# EAGLE library part STAMP_PWR485 (library lbr_rin9147)
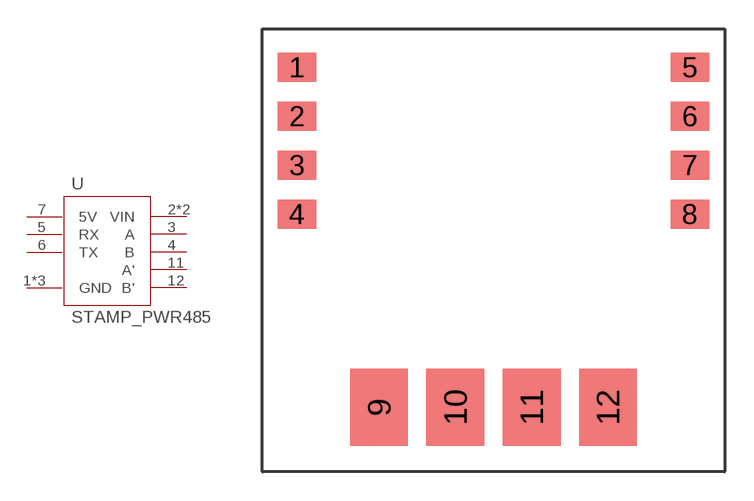
[diagram p11: symbol with the pads of STAMP_PWR485; footprint STAMP_PWR485]

Designator prefix -

## STAMP_PWR485  [STAMP_PWR485]
1  GND
2  VIN  pas
3  A
4  B
5  RX
6  TX
7  5V  pas
8  GND
9  GND
10  VIN  pas
11  A'
12  B'

## Footprint STAMP_PWR485 (pad centres in mm)
smd 2 x 1.5: 1 -0.2,0; 2 -0.2,-2.54; 3 -0.2,-5.08; 4 -0.2,-7.62; 5 20.2,0; 6 20.2,-2.54; 7 20.2,-5.08; 8 20.2,-7.62
smd 3 x 4: 9 4.06,-17.65; 10 8.02,-17.65; 11 11.98,-17.65; 12 15.94,-17.65